# EAGLE library part RBOT-BOARD-INTERCONNECT_5X2 (library rbot-connection)
RBOT Board Interconnect
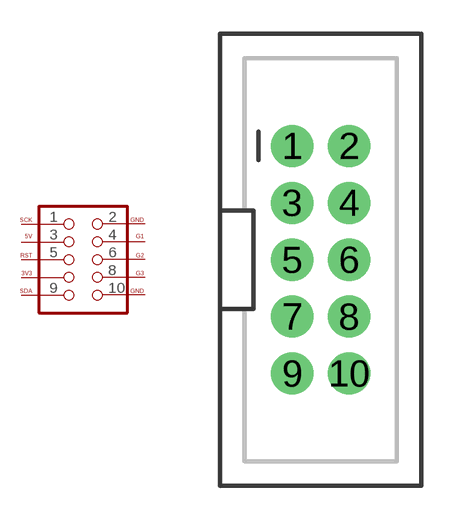
[diagram p0: symbol with the pads of RBOT-CONNECTOR_2X5-SHROUDED; footprint RBOT-CONNECTOR_2X5-SHROUDED]

Designator prefix J

## RBOT-BOARD-INTERCONNECT_5X2PTH2 (PROD_ID: CONN-08671; SF_ID: PRT-08506)  [RBOT-CONNECTOR_2X5-SHROUDED]
1  SCK  in
2  GND  pwr
3  5V  pwr
4  G1
5  RST
6  G2
7  3v3  ?
8  G3
9  SDA
10  GND  pwr

## Footprint RBOT-CONNECTOR_2X5-SHROUDED (pad centres in mm)
Plated Through Hole - 2x5 Shrouded Header Specifications: Pin count:10 Pin pitch:0.1" Datasheet referenced for footprint <https://www.sparkfun.com/datasheets/Prototyping/Shrouded-10pin.pdf> Example device(s): CONN_05x2
drill 1.016 pad 1.88: 1 -1.27,5.08; 2 1.27,5.08; 3 -1.27,2.54; 4 1.27,2.54; 5 -1.27,0; 6 1.27,0; 7 -1.27,-2.54; 8 1.27,-2.54; 9 -1.27,-5.08; 10 1.27,-5.08